# Altium schematic symbol library MT9700.SchLib: 1 symbol
Pins are listed as number, name and electrical type; pins without a type are passive.

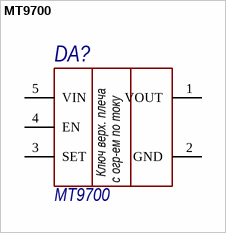
[diagram p0: symbol MT9700]

## MT9700
designator DA?
fucking ic
pins: 1 VOUT, 2 GND, 3 SET, 4 EN, 5 VIN
text: Ключ верх. плеча; с огр-ем по току